# Altium schematic symbol library 247-616_Pi-CAN.SCHLIB: 14 symbols
Pins are listed as number, name and electrical type; pins without a type are passive.

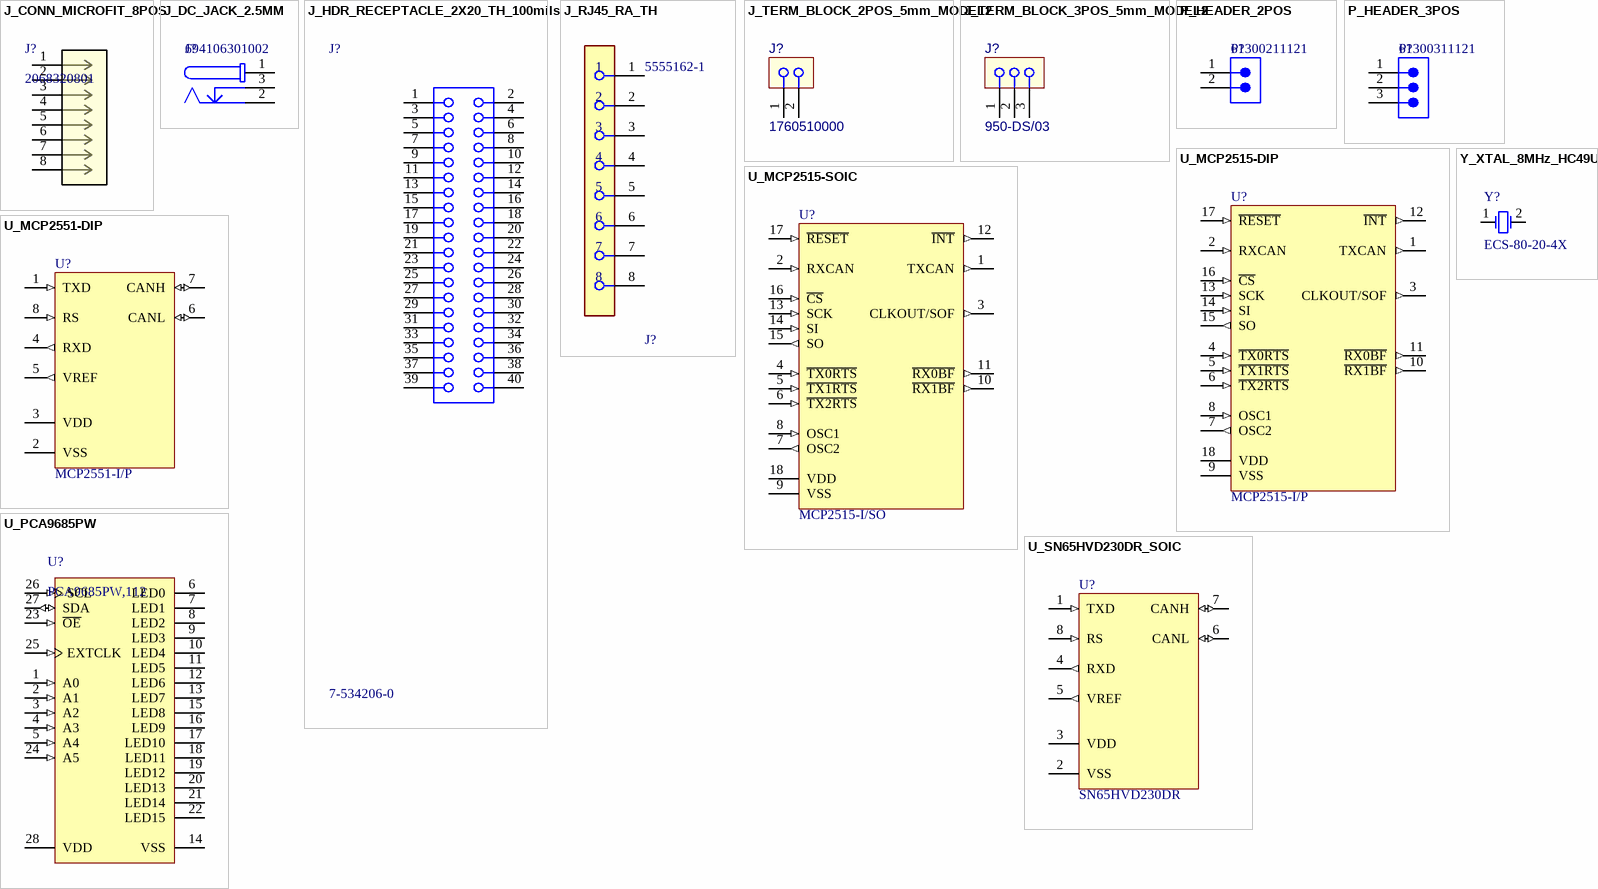
[diagram p0: symbols J_CONN_MICROFIT_8POS to Y_XTAL_8MHz_HC49US]

## J_CONN_MICROFIT_8POS
designator J?, comment 2068320801
Micro-Fit+ Vertical Header, Through Hole, 3.00mm Pitch, Dual Row, 8 Circuits, Tin (Sn) Plating, Glow-Wire Capable, Black, Tray; Manufacturer_Name: Molex Connector Corporation; Parameter 6: ID_CEP; Copyright: Copyright (C) 2025 Ultra Librarian. All rights reserved.; Manufacturer_Part_Number: 2068320801; RefDes: RefDes; Type: Type; Verif_1: *; Verif_2: *; PN_Manuf: 2068320801; Fitted: Fitted; Manufacturer: Molex Connector Corporation
footprint CONN_2068320000-SD_08_MOL
pins: 1, 2, 3, 4, 5, 6, 7, 8

## J_DC_JACK_2.5MM
designator J?, comment 694106301002
DC Barrel Connector 2.5mm; Manufacturer 1: XKB Connection; Manufacturer Part Number 1: DC-005-5A-2.5; Manufacturer: Würth Elektronik; Mount: TH; Supplier 1: LCSC; Supplier Part Number 1: C381115; Fitted: Fitted; ID_CEP: *; PN_Manuf: 694106301002
footprint P_DC-JACK_RA (DC Power Jack Right Angle)
pins: 1, 2, 3

## J_HDR_RECEPTACLE_2X20_TH_100mils
designator J?, comment 7-534206-0
CONN RCPT 40POS 0.1; Manufacturer 1: TE Connectivity; Manufacturer2_PN: PPTC202LFBN-RC; CEGEP: CON040; Manufacturer Part Number 1: 7-534206-0; Mount: TH; Supplier 1: Digi-Key; Supplier Part Number 1: S6104-ND; Manufacturer2: Sullins; ID_CEP: *; Fitted: Fitted; Manufacturer: TE Connectivity; PN_Manuf: 7-534206-0
footprint CONN_HDR_FEM_2x20pos_100mil (Connector Receptacle 2 rows  TH)
pins: 1, 2, 3, 4, 5, 6, 7, 8, 9, 10, 11, 12, 13, 14, 15, 16, 17, 18, 19, 20, 21, 22, 23, 24, 25, 26, 27, 28, 29, 30, 31, 32, 33, 34, 35, 36, 37, 38, 39, 40

## J_RJ45_RA_TH
designator J?, comment 5555162-1
CONN MOD JACK 8P8C R/A UNSHLD TH; Manufacturer 1: TE Connectivity; Manufacturer Part Number 1: 5555162-1; Mount: TH; Supplier 1: Digi-Key; Supplier Part Number 1: A31419-ND
footprint CONN_RJ45_TH
pins: 1, 2, 3, 4, 5, 6, 7, 8

## J_TERM_BLOCK_2POS_5mm_MODEL2
designator J?, comment 1760510000
CONN TERM BLOCK 2POS 5mm pitch; Manufacturer 1: Phoenix Contact; Manufacturer Part Number 1: 1890963; CEGEP: CONWECO0003; Manufacturer2: Weidmüller; Manufacturer2_PN: 1760510000; Supplier 1: Digi-Key; Supplier Part Number 1: 281-1882-ND; Mount: TH
footprint J_TERM_BLOCK_2POS_TH_5mm_Model2 (Terminal Block 2 positions Throught hole)
pins: 1 "USB Vcc [Red]", 2 "USB Data - [White]"

## J_TERM_BLOCK_3POS_5mm_MODEL2
designator J?, comment 950-DS/03
CONN TERM BLOCK 3POS 5mm pitch; Manufacturer 1: Phoenix Contact; Manufacturer Part Number 1: 1890976; CEGEP: CONWECO0002; Manufacturer2: Weco; Manufacturer2_PN: 950-DS/03; Supplier 1: Digi-Key; Supplier Part Number 1: 277-6163-ND; Mount: TH; ID_CEP: *; PN_Manuf: 950-DS/03; Fitted: Fitted; Manufacturer: Phoenix Contact
footprint J_TERM_BLOCK_3POS_TH_5mm_Model2 (Terminal Block 3 positions Throught hole)
pins: 1 "USB Vcc [Red]", 2 "USB Data - [White]", 3 "USB Data - [White]"

## P_HEADER_2POS
designator P?, comment 61300211121
Header 2pins single row , 100mils TH; Manufacturer 1: Würth Elektronik; Manufacturer Part Number 1: 61300211121; Mount: TH; Supplier 1: Digi-Key; Supplier Part Number 1: 732-5315-ND; ID_CEP: *; Fitted: Fitted; PN_Manuf: 61300211121; Manufacturer: Würth Elektronik
footprint P_HDR_2POS_100MILS_TH (Pin Header, pitch 2.54 mm, THT, Vertical, single row, 2p)
pins: 1, 2

## P_HEADER_3POS
designator P?, comment 61300311121
Header 3pins single row, TH; Manufacturer 1: Würth Elektronik; Manufacturer Part Number 1: 61300311121; Mount: TH; Supplier 1: Digi-Key; Supplier Part Number 1: 732-5316-ND; Fitted: Fitted; PN_Manuf: 61300311121; ID_CEP: *; Manufacturer: Würth Elektronik
footprint P_HDR_3POs_100MILS_TH (Pin Header, pitch 2.54 mm, THT, Vertical, single row, 3p)
pins: 1, 2, 3

## U_MCP2515-DIP
designator U?, comment MCP2515-I/P
CAN Controller Stand-Alone With SPI, 18-Pin PDIP; Manufacturer 1: Microchip; CEGEP: IC2515; Manufacturer Part Number 1: MCP2515-I/P; Supplier 1: Digi-Key; Supplier Part Number 1: MCP2515-I/P-ND; Mount: TH
footprint PDIP300-P18 (DIP, 18-Pin, Row Spacing 7.62 mm, Pitch 2.54 mm)
pins: 1 TXCAN (out), 2 RXCAN (in), 3 CLKOUT/SOF (out), 4 ~{TX0RTS} (in), 5 ~{TX1RTS} (in), 6 ~{TX2RTS} (in), 7 OSC2 (out), 8 OSC1 (in), 9 VSS (power), 10 ~{RX1BF} (out), 11 ~{RX0BF} (out), 12 ~{INT} (out), 13 SCK (in), 14 SI (in), 15 SO (out), 16 ~{CS} (in), 17 ~{RESET} (in), 18 VDD (power)

## U_MCP2515-SOIC
designator U?, comment MCP2515-I/SO
CANbus Controller CAN 2.0 SPI Interface 18-SOIC; Manufacturer 1: Microchip; Manufacturer Part Number 1: MCP2515T-I/SO; Supplier 1: Digi-Key; Supplier Part Number 1: MCP2515T-I/SO; Mount: SMT; ID_CEP: *; Fitted: Fitted; Manufacturer: Microchip; PN_Manuf: MCP2515-I/SO
footprint SOIC18-1.27-11.5X7.5MM
pins: 1 TXCAN (out), 2 RXCAN (in), 3 CLKOUT/SOF (out), 4 ~{TX0RTS} (in), 5 ~{TX1RTS} (in), 6 ~{TX2RTS} (in), 7 OSC2 (out), 8 OSC1 (in), 9 VSS (power), 10 ~{RX1BF} (out), 11 ~{RX0BF} (out), 12 ~{INT} (out), 13 SCK (in), 14 SI (in), 15 SO (out), 16 ~{CS} (in), 17 ~{RESET} (in), 18 VDD (power)

## U_MCP2551-DIP
designator U?, comment MCP2551-I/P
CAN Transceiver, 8-Pin PDIP,; Manufacturer 1: Microchip; CEGEP: PTSO0175; Manufacturer Part Number 1: MCP2551-I/P; Mount: TH
footprint PDIP300-P8 (8-Pin Plastic Dual In-Line Package (PDIP))
pins: 1 TXD (in), 2 VSS (power), 3 VDD (power), 4 RXD (out), 5 VREF (out), 6 CANL (io), 7 CANH (io), 8 RS (in)

## U_PCA9685PW
designator U?, comment PCA9685PW,112
16-Channel, 12-Bit PWM I2C-Bus LED Controller, 28-Pin TSSOP (SOT361-1); Manufacturer 1: NXP; Manufacturer: NXP USA Inc.; Manufacturer Part Number 1: PCA9685PW,112; Mount: SMT; Supplier 1: Digi-Key; Supplier Part Number 1: 568-8366-5-ND; ID_CEP: *; Fitted: Fitted; PN_Manuf: PCA9685PW,112
footprint TSSOP28_SOT361-1_V (SOP, 28-Leads, Body 9.7x4.4mm, Pitch 0.65mm, NXP Recommended)
pins: 1 A0 (in) "address input 0", 2 A1 (in) "address input 1", 3 A2 (in) "address input 2", 4 A3 (in) "address input 3", 5 A4 (in) "address input 4", 6 LED0 (hiz) "LED driver 0", 7 LED1 (hiz) "LED driver 1", 8 LED2 (hiz) "LED driver 2", 9 LED3 (hiz) "LED driver 3", 10 LED4 (hiz) "LED driver 4", 11 LED5 (hiz) "LED driver 5", 12 LED6 (hiz) "LED driver 6", 13 LED7 (hiz) "LED driver 7", 14 VSS (power) "supply ground", 15 LED8 (hiz) "LED driver 8", 16 LED9 (hiz) "LED driver 9", 17 LED10 (hiz) "LED driver 10", 18 LED11 (hiz) "LED driver 11", 19 LED12 (hiz) "LED driver 12", 20 LED13 (hiz) "LED driver 13", 21 LED14 (hiz) "LED driver 14", 22 LED15 (hiz) "LED driver 15", 23 ~{OE} (in) "active LOW output enable", 24 A5 (in) "address input 5", 25 EXTCLK (in) "external clock input", 26 SCL (in) "serial clock line", 27 SDA (io) "serial data line", 28 VDD (power) "supply voltage"

## U_SN65HVD230DR_SOIC
designator U?, comment SN65HVD230DR
IC TRANSCEIVER HALF 1/1 8SOIC; Manufacturer 1: Texas Instruments; Manufacturer Part Number 1: SN65HVD230DR; Mount: SMT; ID_CEP: *; Fitted: Fitted; PN_Manuf: SN65HVD230DR; Manufacturer: Texas Instruments
footprint SOIC127P599X175-8N
pins: 1 TXD (in), 2 VSS (power), 3 VDD (power), 4 RXD (out), 5 VREF (out), 6 CANL (io), 7 CANH (io), 8 RS (in)

## Y_XTAL_8MHz_HC49US
designator Y?, comment ECS-80-20-4X
Crystal 8MHz TH; Manufacturer 1: ECS; Manufacturer: ECS Inc.; Tolerance: 50ppm; CEGEP: CRISTAL0041; Mount: TH; Manufacturer Part Number 1: ECS-80-20-4X; Supplier 1: Digi-Key; Supplier Part Number 1: XC1922-ND; Value: 8MHz; PN_Manuf: ECS-80-20-4X; Fitted: Fitted; ID_CEP: *
footprint Y_HC-49-US (Xtal)
pins: 1, 2